# EAGLE library part MICROSD-HIROSE (library calculator_lib)
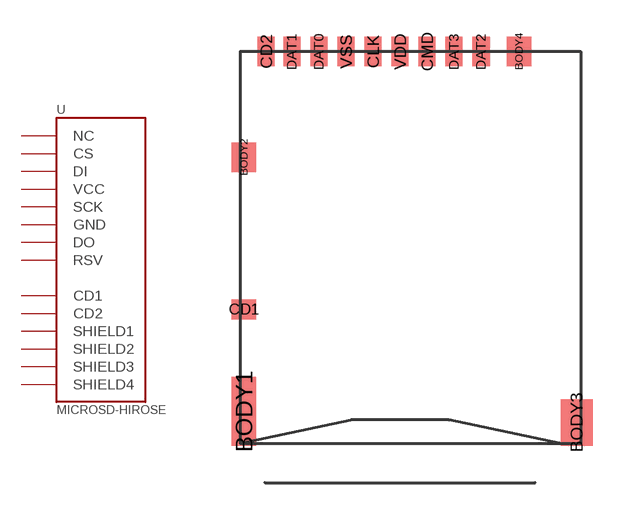
[diagram p0: symbol with the pads of MICROSD_HOLDER-HIROSE-DM3AT; footprint MICROSD_HOLDER-HIROSE-DM3AT]

Designator prefix -

## MICROSD-HIROSE  [MICROSD_HOLDER-HIROSE-DM3AT]
BODY1  SHIELD1
BODY2  SHIELD2
BODY3  SHIELD3
BODY4  SHIELD4
CD1  CD1
CD2  CD2
CLK  SCK
CMD  DI
DAT0  DO
DAT1  RSV
DAT2  NC
DAT3  CS
VDD  VCC  pwr
VSS  GND  pwr

## Footprint MICROSD_HOLDER-HIROSE-DM3AT (pad centres in mm)
smd 1 x 2.8: BODY1 -6.35,-14.65
smd 1 x 1.2: BODY2 -6.35,-4.3; BODY4 4.85,0
smd 1.3 x 1.9: BODY3 7.2,-15.1
smd 1 x 0.8: CD1 -6.35,-10.5
smd 0.7 x 1.2: CD2 -5.45,0; CLK -1.1,0; CMD 1.1,0; DAT0 -3.3,0; DAT1 -4.4,0; DAT2 3.3,0; DAT3 2.2,0; VDD 0,0; VSS -2.2,0